# EAGLE library part MA12-2 (library MA_HEADER)
0.05" pitch header
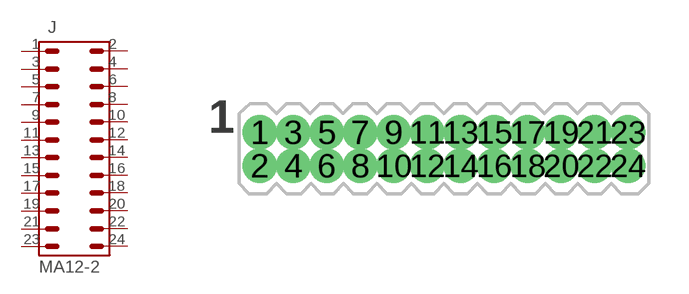
[diagram p3: symbol with the pads of MA12-2; footprint MA12-2]

Designator prefix J

## MA12-2  [MA12-2]
1  P$1  pas
2  P$2  pas
3  P$3  pas
4  P$4  pas
5  P$5  pas
6  P$6  pas
7  P$7  pas
8  P$8  pas
9  P$9  pas
10  P$10  pas
11  P$11  pas
12  P$12  pas
13  P$13  pas
14  P$14  pas
15  P$15  pas
16  P$16  pas
17  P$17  pas
18  P$18  pas
19  P$19  pas
20  P$20  pas
21  P$21  pas
22  P$22  pas
23  P$23  pas
24  P$24  pas

## Footprint MA12-2 (pad centres in mm)
MA12-02 0.05" header
drill 0.8 pad 1.016: 1 -6.985,0.635; 2 -6.985,-0.635; 3 -5.715,0.635; 4 -5.715,-0.635; 5 -4.445,0.635; 6 -4.445,-0.635; 7 -3.175,0.635; 8 -3.175,-0.635; 9 -1.905,0.635; 10 -1.905,-0.635; 11 -0.635,0.635; 12 -0.635,-0.635; 13 0.635,0.635; 14 0.635,-0.635; 15 1.905,0.635; 16 1.905,-0.635; 17 3.175,0.635; 18 3.175,-0.635; 19 4.445,0.635; 20 4.445,-0.635; 21 5.715,0.635; 22 5.715,-0.635; 23 6.985,0.635; 24 6.985,-0.635